# Altium footprint library NKK AB11AH-HC.PCBLIB: 1 footprints
Each footprint in its own frame and in the unit in brackets; x right, y up, seen from the top. Pads: shape width x height; smd on the part's side, far side on the other; paste and mask are expansions set on the pad; w line width, h text height; cw(c..) or ccw(c..) is an arc to the next point about the centre after c.
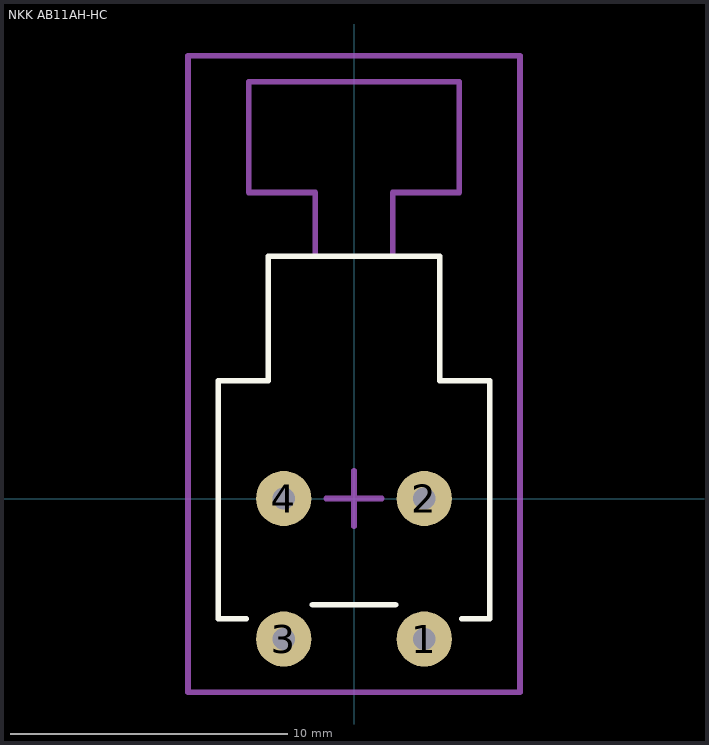
[diagram p0: the footprint, top view; thin cyan lines are the x and y axes]

## NKK AB11AH-HC [mm]
height 6.18
pads (4):
  round 2 hole 0.8: 1(2.54,-5.08) 2(2.54,0) 3(-2.54,-5.08) 4(-2.54,0)
Top Overlay:
  lines w0.2: -3.9,-4.34 -4.9,-4.34 -4.9,4.26 -3.1,4.26 -3.1,8.76 3.1,8.76 3.1,4.26 4.9,4.26 4.9,-4.34 3.9,-4.34 ; -1.5,-3.84 1.5,-3.84
Mechanical 1:
  lines w0.2: -1.4,8.76 -1.4,11.06 -3.8,11.06 -3.8,15.06 3.8,15.06 3.8,11.06 1.4,11.06 1.4,8.76
Mechanical 15:
  lines w0.2: -1,0 1,0 ; 0,-1 0,1 ; -6,-7 6,-7 6,16 -6,16 -6,-7
3D body "NKK AB11AH-HC.STEP": height 7.06, standoff -3.1, extent -4.902,-5.39 4.902,15.082